# Altium footprint library mrsl.PcbLib: 218 footprints (part 9 of 14)
Each footprint in its own frame and in the unit in brackets; x right, y up, seen from the top. Pads: shape width x height; smd on the part's side, far side on the other; paste and mask are expansions set on the pad; w line width, h text height; cw(c..) or ccw(c..) is an arc to the next point about the centre after c.
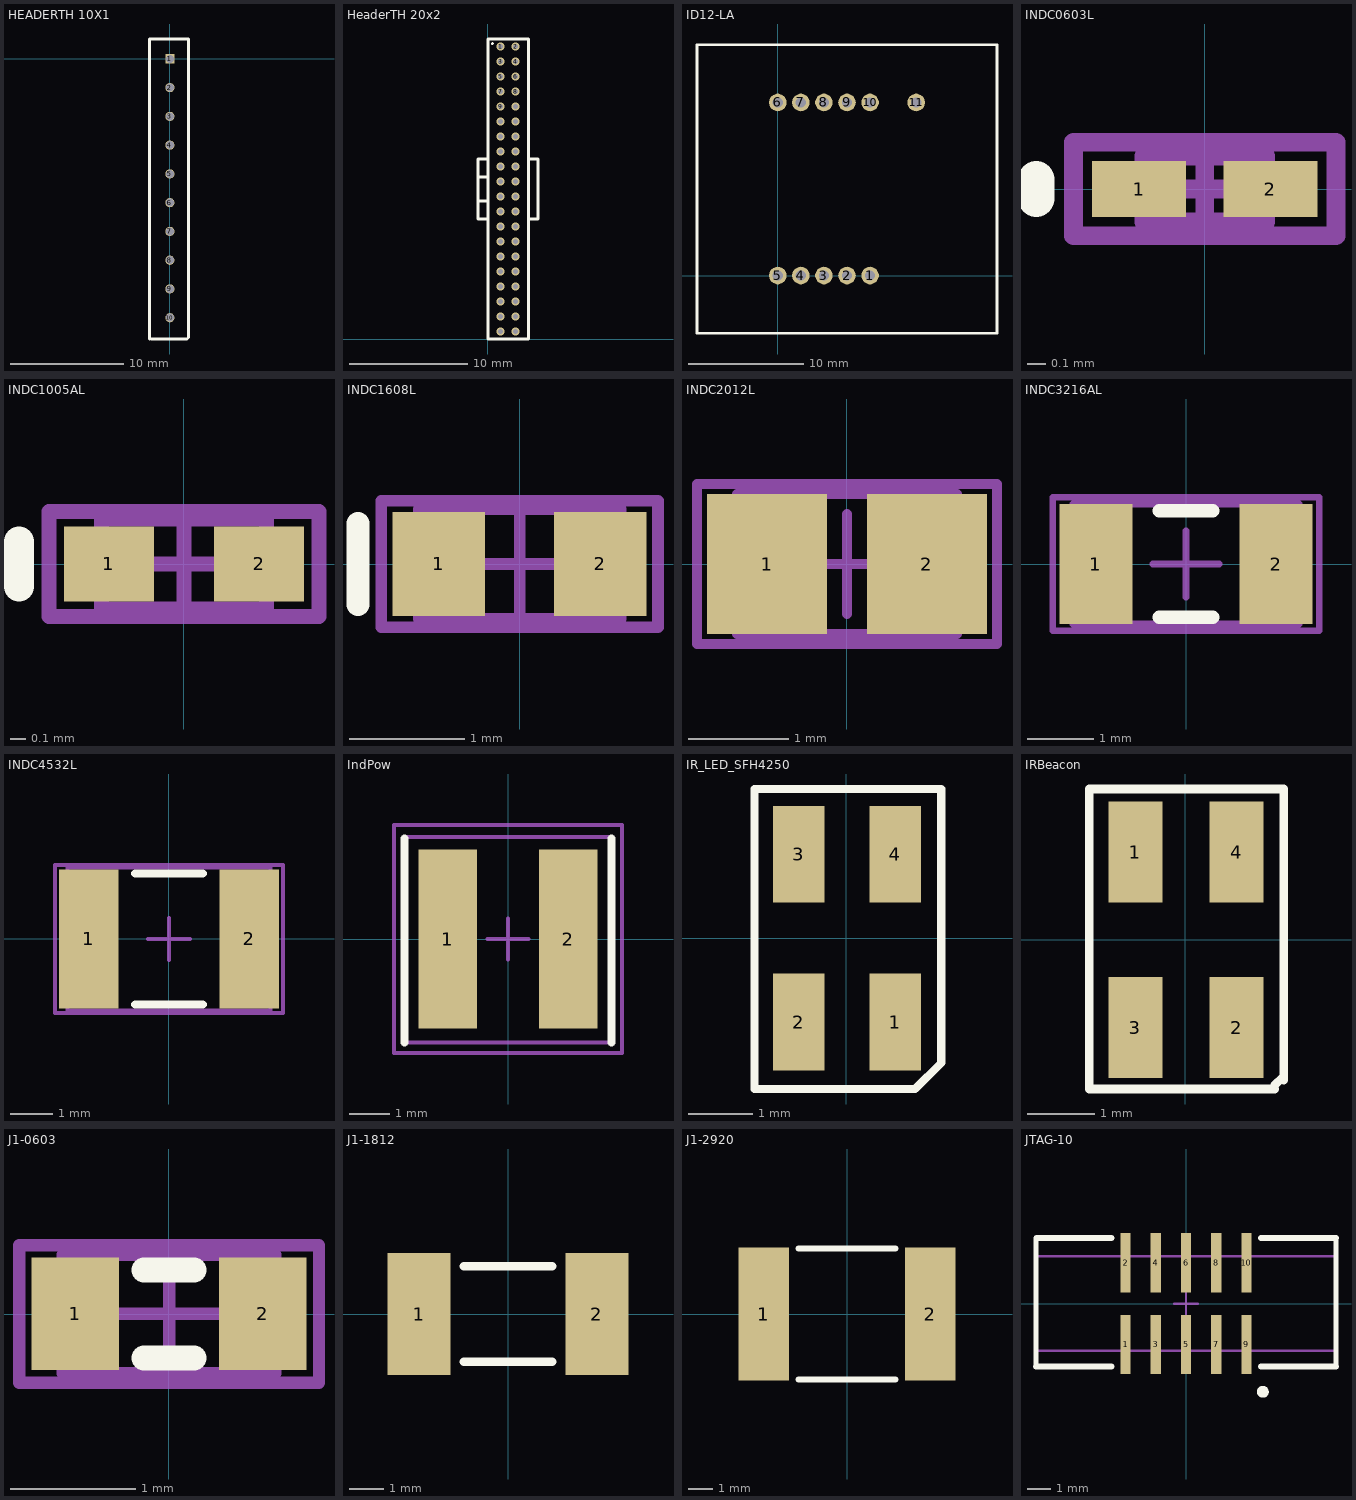
[diagram p8: the footprints below, top view; thin cyan lines are the x and y axes]

## HEADERTH 10X1 [mil]
pads (10):
  rect 32x32 hole 28: 1(0,0)
  round 32 hole 28: 2(0,-100) 3(0,-200) 4(0,-300) 5(0,-400) 6(0,-500) 7(0,-600) 8(0,-700) 9(0,-800) 10(0,-900)
Top Overlay:
  lines w10: -71,-974 -71,69 65,69 65,-969 60,-974 -65,-974

## HeaderTH 20x2 [mil] "Header, 40 pin, through-hole, 50mil pin spacing, 2X20"
height 225
pads (40):
  round 27 hole 17: 1(42.5,975) 2(92.5,975) 3(42.5,925) 4(92.5,925) 5(42.5,875) 6(92.5,875) 7(42.5,825) 8(92.5,825) 9(42.5,775) 10(92.5,775) 11(42.5,725) 12(92.5,725) 13(42.5,675) 14(92.5,675) 15(42.5,625) 16(92.5,625) 17(42.5,575) 18(92.5,575) 19(42.5,525) 20(92.5,525) 21(42.5,475) 22(92.5,475) 23(42.5,425) 24(92.5,425) 25(42.5,375) 26(92.5,375) 27(42.5,325) 28(92.5,325) 29(42.5,275) 30(92.5,275) 31(42.5,225) 32(92.5,225) 33(42.5,175) 34(92.5,175) 35(42.5,125) 36(92.5,125) 37(42.5,75) 38(92.5,75) 39(42.5,25) 40(92.5,25)
Top Overlay:
  lines w10: -32.5,460 0,460 ; -32.5,540 0,540 ; 0,400 -32.5,400 -32.5,600 0,600 ; 15,985 15.39,984.61 ; 135,400 165,400 ; 135,600 165,600 ; 167.5,400 167.5,600 ; 0,0 0,1000 135,1000 135,0 0,0

## ID12-LA [mil]
height 236.22
pads (11):
  round 60 hole 35: 1(314.96,0) 2(236.22,0) 3(157.48,0) 4(78.74,0) 5(0,0) 6(0,590.55) 7(78.74,590.55) 8(157.48,590.55) 9(236.22,590.55) 10(314.96,590.55) 11(472.44,590.55)
Top Overlay:
  lines w10: -275.59,-196.85 -275.59,787.4 748.03,787.4 748.03,-196.85 -275.59,-196.85

## INDC0603L [mm] "Chip Inductor, Body 0.6x0.3mm, IPC High Density"
height 0.55
pads (2):
  rect 0.5x0.3 smd: 1(-0.35,0) 2(0.35,0)
Top Overlay:
  lines w0.2: -0.9,-0.05 -0.9,0.05
Mechanical 13:
  lines w0.1: -0.325,-0.175 0.325,-0.175 0.325,0.175 -0.325,0.175 -0.325,-0.175
Mechanical 15:
  lines w0.1: -0.175,0 0.175,0 ; 0,-0.175 0,0.175 ; -0.7,-0.25 0.7,-0.25 0.7,0.25 -0.7,0.25 -0.7,-0.25
3D body: height 0.55, standoff 0, extent -0.325,-0.175 0.325,0.175

## INDC1005AL [mm] "Chip Inductor, Body 1.0x0.5mm, IPC High Density"
height 0.55
pads (2):
  rect 0.6x0.5 smd: 1(-0.5,0) 2(0.5,0)
Top Overlay:
  lines w0.2: -1.1,-0.15 -1.1,0.15
Mechanical 13:
  lines w0.1: -0.55,-0.3 -0.55,0.3 0.55,0.3 0.55,-0.3 -0.55,-0.3
Mechanical 15:
  lines w0.1: -0.3,0 0.3,0 ; 0,-0.3 0,0.3 ; -0.9,-0.35 -0.9,0.35 0.9,0.35 0.9,-0.35 -0.9,-0.35
3D body: height 0.55, standoff 0, extent -0.55,-0.3 0.55,0.3

## INDC1608L [mm] "Chip Inductor, Body 1.6x0.8mm, IPC High Density"
height 0.55
pads (2):
  rect 0.8x0.9 smd: 1(-0.7,0) 2(0.7,0)
Top Overlay:
  lines w0.2: -1.4,-0.35 -1.4,0.35
Mechanical 13:
  lines w0.1: -0.875,-0.475 -0.875,0.475 0.875,0.475 0.875,-0.475 -0.875,-0.475
Mechanical 15:
  lines w0.1: -0.475,0 0.475,0 ; 0,-0.475 0,0.475 ; -1.2,-0.55 -1.2,0.55 1.2,0.55 1.2,-0.55 -1.2,-0.55
3D body: height 0.55, standoff 0, extent -0.875,-0.475 0.875,0.475

## INDC2012L [mm] "Chip Inductor, Body 2.0x1.2mm, IPC High Density"
height 0.55
pads (2):
  rect 1.2x1.4 smd: 1(-0.8,0) 2(0.8,0)
Mechanical 13:
  lines w0.1: -1.1,-0.7 1.1,-0.7 1.1,0.7 -1.1,0.7 -1.1,-0.7
Mechanical 15:
  lines w0.1: -0.5,0 0.5,0 ; 0,-0.5 0,0.5 ; -1.5,-0.8 1.5,-0.8 1.5,0.8 -1.5,0.8 -1.5,-0.8
3D body: height 0.55, standoff 0, extent -1.1,-0.7 1.1,0.7

## INDC3216AL [mm] "Chip Inductor, Body 3.2x1.6mm, IPC High Density"
height 0.55
pads (2):
  rect 1.1x1.8 smd: 1(-1.35,0) 2(1.35,0)
Top Overlay:
  lines w0.2: -0.4,-0.8 0.4,-0.8 ; -0.4,0.8 0.4,0.8
Mechanical 13:
  lines w0.1: -1.7,-0.9 1.7,-0.9 1.7,0.9 -1.7,0.9 -1.7,-0.9
Mechanical 15:
  lines w0.1: -0.5,0 0.5,0 ; 0,-0.5 0,0.5 ; -2,-1 2,-1 2,1 -2,1 -2,-1
3D body: height 0.55, standoff 0, extent -1.7,-0.9 1.7,0.9

## INDC4532L [mm] "Chip Inductor, Body 4.5x3.2mm, IPC High Density"
height 0.55
pads (2):
  rect 1.4x3.3 smd: 1(-1.9,0) 2(1.9,0)
Top Overlay:
  lines w0.2: -0.8,-1.55 0.8,-1.55 ; -0.8,1.55 0.8,1.55
Mechanical 13:
  lines w0.1: -2.4,-1.7 -2.4,1.7 2.4,1.7 2.4,-1.7 -2.4,-1.7
Mechanical 15:
  lines w0.1: -0.5,0 0.5,0 ; 0,-0.5 0,0.5 ; -2.7,-1.75 -2.7,1.75 2.7,1.75 2.7,-1.75 -2.7,-1.75
3D body: height 0.55, standoff 0, extent -2.4,-1.7 2.4,1.7

## IndPow [mil]
pads (2):
  rect 56.5x173 smd: 1(-58.25,0) 2(58.25,0)
Top Overlay:
  lines w7.87: -100,-100 -100,96.85 ; 100,-100 100,96.85
Mechanical 13:
  lines w3.94: -100,-100 100,-100 100,98.43 ; -100,98.43 100,98.42
Mechanical 15:
  lines w3.94: -19.69,0 19.68,0 ; 0,-19.68 0,19.68 ; -110,-110 -110,110 110,110 110,-110 -110,-110

## IR_LED_SFH4250 [mm]
height 3
pads (4):
  rect 0.8x1.5 smd: 1(0.762,-1.3) 2(-0.738,-1.3) 3(-0.738,1.3) 4(0.762,1.3)
Top Overlay:
  lines w0.127: -1.422,-2.337 -1.422,2.311 1.473,2.311 1.473,-1.93 1.067,-2.337 -1.422,-2.337

## IRBeacon [mm]
height 3
pads (4):
  rect 0.8x1.5 smd: 1(-0.738,1.3) 2(0.762,-1.3) 3(-0.738,-1.3) 4(0.762,1.3)
Top Overlay:
  lines w0.127: 1.321,-2.159 1.455,-2.025 ; 1.328,-2.21 -1.422,-2.21 -1.422,2.235 1.462,2.235 1.462,-2.076

## J1-0603 [mm] "Chip Resistor, Body 1.6x0.8mm, IPC High Density"
height 0.9
pads (2):
  rect 0.7x0.9 smd: 1(-0.75,0) 2(0.75,0)
Top Overlay:
  lines w0.2: -0.2,-0.35 0.2,-0.35 ; -0.2,0.35 0.2,0.35
Mechanical 13:
  lines w0.1: -0.85,-0.475 0.85,-0.475 0.85,0.475 -0.85,0.475 -0.85,-0.475
Mechanical 15:
  lines w0.1: -0.475,0 0.475,0 ; 0,-0.475 0,0.475 ; -1.2,-0.55 1.2,-0.55 1.2,0.55 -1.2,0.55 -1.2,-0.55
3D body: height 0.9, standoff 0, extent -0.85,-0.475 0.85,0.475

## J1-1812 [mm] "Standard surface mount chip - 45 x 32 mm"
pads (2):
  rect 1.85x3.6 smd: 1(-2.615,0) 2(2.615,0)
Top Overlay:
  lines w0.254: -1.3,-1.4 1.3,-1.4 ; -1.3,1.4 1.3,1.4

## J1-2920 [mm] "Standard component footprint - 29x20 mils or 75x55 mm."
pads (2):
  rect 2.05x5.4 smd: 1(-3.375,0) 2(3.375,0)
Top Overlay:
  lines w0.254: -1.95,-2.65 1.95,-2.65 ; -1.95,2.65 1.95,2.65

## JTAG-10 [mm] "Connector, Socket Strip, Double Row, SMT, 20 Position, Vertical, Pitch 2mm, Body 20 x 4 mm (LxW)"
height 5.53
pads (10):
  rect 0.44x2.5 smd: 1(-2.56,-1.73) 2(-2.56,1.73) 3(-1.28,-1.73) 4(-1.28,1.73) 5(0,-1.73) 6(0,1.73) 7(1.28,-1.73) 8(1.28,1.73) 9(2.56,-1.73) 10(2.56,1.73)
Top Overlay:
  circle w0.25: c3.253,-3.734 r0.125
  lines w0.2: -6.35,-2.54 -6.35,2.692 ; 6.35,-2.54 6.35,2.743
  lines w0.254: -6.35,-2.667 -3.15,-2.667 ; -6.325,2.769 -3.15,2.769 ; 3.175,-2.667 6.35,-2.667 ; 3.175,2.769 6.35,2.769
Mechanical 13:
  lines w0.1: -6.35,-2 6.35,-2 6.35,2 -6.35,2 -6.35,-2
Mechanical 15:
  lines w0.1: -0.5,0 0.5,0 ; 0,-0.5 0,0.5
3D body: height 3.56, standoff 0, extent -6.35,-2.007 6.35,2.032